# EAGLE library part RNX6 (library resistor-net)
RESISTOR NETWORK
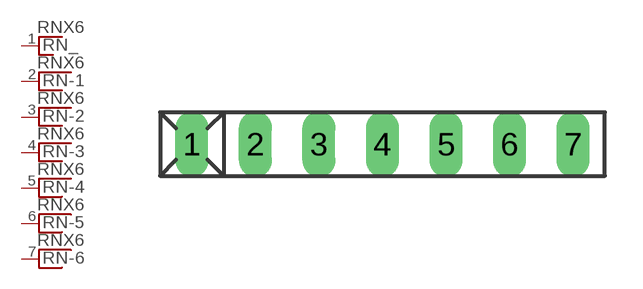
[diagram p7: symbol with the pads of RN-7; footprint RN-7]

Designator prefix RN; gates _=RN_1 -1=RNX -2=RNX -3=RNX -4=RNX -5=RNX -6=RNX

## RNX6  [RN-7]
1  _:1  pas
2  -1:1  pas
3  -2:1  pas
4  -3:1  pas
5  -4:1  pas
6  -5:1  pas
7  -6:1  pas

## Footprint RN-7 (pad centres in mm)
RESISTOR NETWORK
drill 0.813 long: 1 -7.62,0; 2 -5.08,0; 3 -2.54,0; 4 0,0; 5 2.54,0; 6 5.08,0; 7 7.62,0